# EAGLE library part STM32G030K*T (library micro-stm)
Added by Aleks
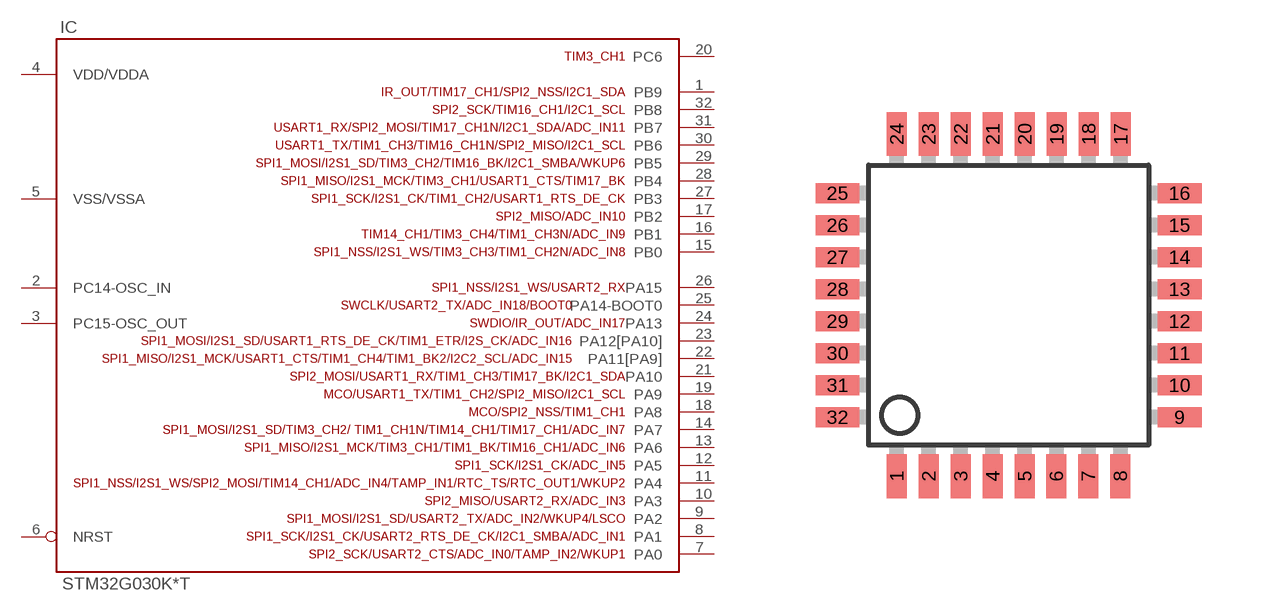
[diagram p174: symbol with the pads of LQFP32; footprint LQFP32]

Designator prefix IC

## STM32G030K6T (FLASH: 32kB), STM32G030K8T (FLASH: 64kB)  [LQFP32]
1  PB9
2  PC14-OSC_IN
3  PC15-OSC_OUT
4  VDD/VDDA
5  VSS/VSSA
6  NRST
7  PA0
8  PA1
9  PA2
10  PA3
11  PA4
12  PA5
13  PA6
14  PA7
15  PB0
16  PB1
17  PB2
18  PA8
19  PA9
20  PC6
21  PA10
22  PA11[PA9]
23  PA12[PA10]
24  PA13
25  PA14-BOOT0  in
26  PA15
27  PB3
28  PB4
29  PB5
30  PB6
31  PB7
32  PB8

## Footprint LQFP32 (pad centres in mm)
LQFP32 7 x 7 mm, 32-pin low-profile quad flat package Aleksander's Gaweda mod includes: -Added keepout frame -Longer pads
smd 0.5 x 1.1: 1 -2.8,-4.275; 2 -2,-4.275; 3 -1.2,-4.275; 4 -0.4,-4.275; 5 0.4,-4.275; 6 1.19,-4.275; 7 1.99,-4.275; 8 2.79,-4.275; 17 2.8,4.275; 18 2,4.275; 19 1.2,4.275; 20 0.4,4.275; 21 -0.4,4.275; 22 -1.2,4.275; 23 -2,4.275; 24 -2.8,4.275
smd 1.1 x 0.5: 9 4.275,-2.8; 10 4.275,-2; 11 4.275,-1.2; 12 4.275,-0.4; 13 4.275,0.4; 14 4.275,1.2; 15 4.275,2; 16 4.275,2.8; 25 -4.275,2.8; 26 -4.275,2; 27 -4.275,1.2; 28 -4.275,0.4; 29 -4.275,-0.4; 30 -4.275,-1.2; 31 -4.275,-2; 32 -4.275,-2.8